# EAGLE library part STSPIN230 (library U-ST-STSPIN2x0-motor-drivers)
Brushless DC motor driver STSPIN230 Low voltage tripple half bridge Datasheet <https://www.st.com/content/ccc/resource/technical/document/datasheet/group3/f5/79/9b/db/49/dd/4d/36/DM00293530/files/DM00293530.pdf/jcr:content/translations/en.DM00293530.pdf>
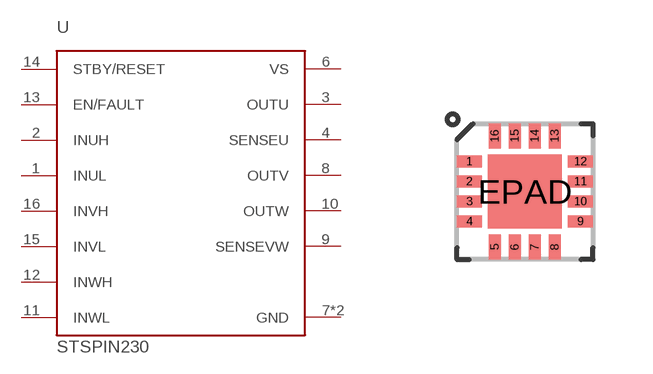
[diagram p0: symbol with the pads of VFQPN; footprint VFQPN]

Designator prefix U

## STSPIN230 (DESCRIPTION: Tripple half bridge motor driver; DIST: Digi-Key; DIST_PN: 497-16603-1-ND; GENERIC: N; MFG: STMicroelectronics; MFG_PN: STSPIN230; P-NP: P)  [VFQPN]
1  INUL  in
2  INUH  in
3  OUTU  out
4  SENSEU  out
6  VS  pwr
7  GND  pwr
8  OUTV  out
9  SENSEVW  out
10  OUTW  out
11  INWL  in
12  INWH  in
13  EN/FAULT
14  STBY/RESET  in
15  INVL  in
16  INVH  in
EPAD  GND  pwr

## Footprint VFQPN (pad centres in mm)
smd 0.63 x 0.3: 1 -1.39,0.75; 2 -1.39,0.25; 3 -1.39,-0.25; 4 -1.39,-0.75; 9 1.39,-0.75; 10 1.39,-0.25; 11 1.39,0.25; 12 1.39,0.75
smd 0.3 x 0.63: 5 -0.75,-1.39; 6 -0.25,-1.39; 7 0.25,-1.39; 8 0.75,-1.39; 13 0.75,1.39; 14 0.25,1.39; 15 -0.25,1.39; 16 -0.75,1.39
smd 1.85 x 1.85: EPAD 0,0